# Altium footprint library MicromouseLib.PcbLib: 42 footprints (part 1 of 3)
Each footprint in its own frame and in the unit in brackets; x right, y up, seen from the top. Pads: shape width x height; smd on the part's side, far side on the other; paste and mask are expansions set on the pad; w line width, h text height; cw(c..) or ccw(c..) is an arc to the next point about the centre after c.
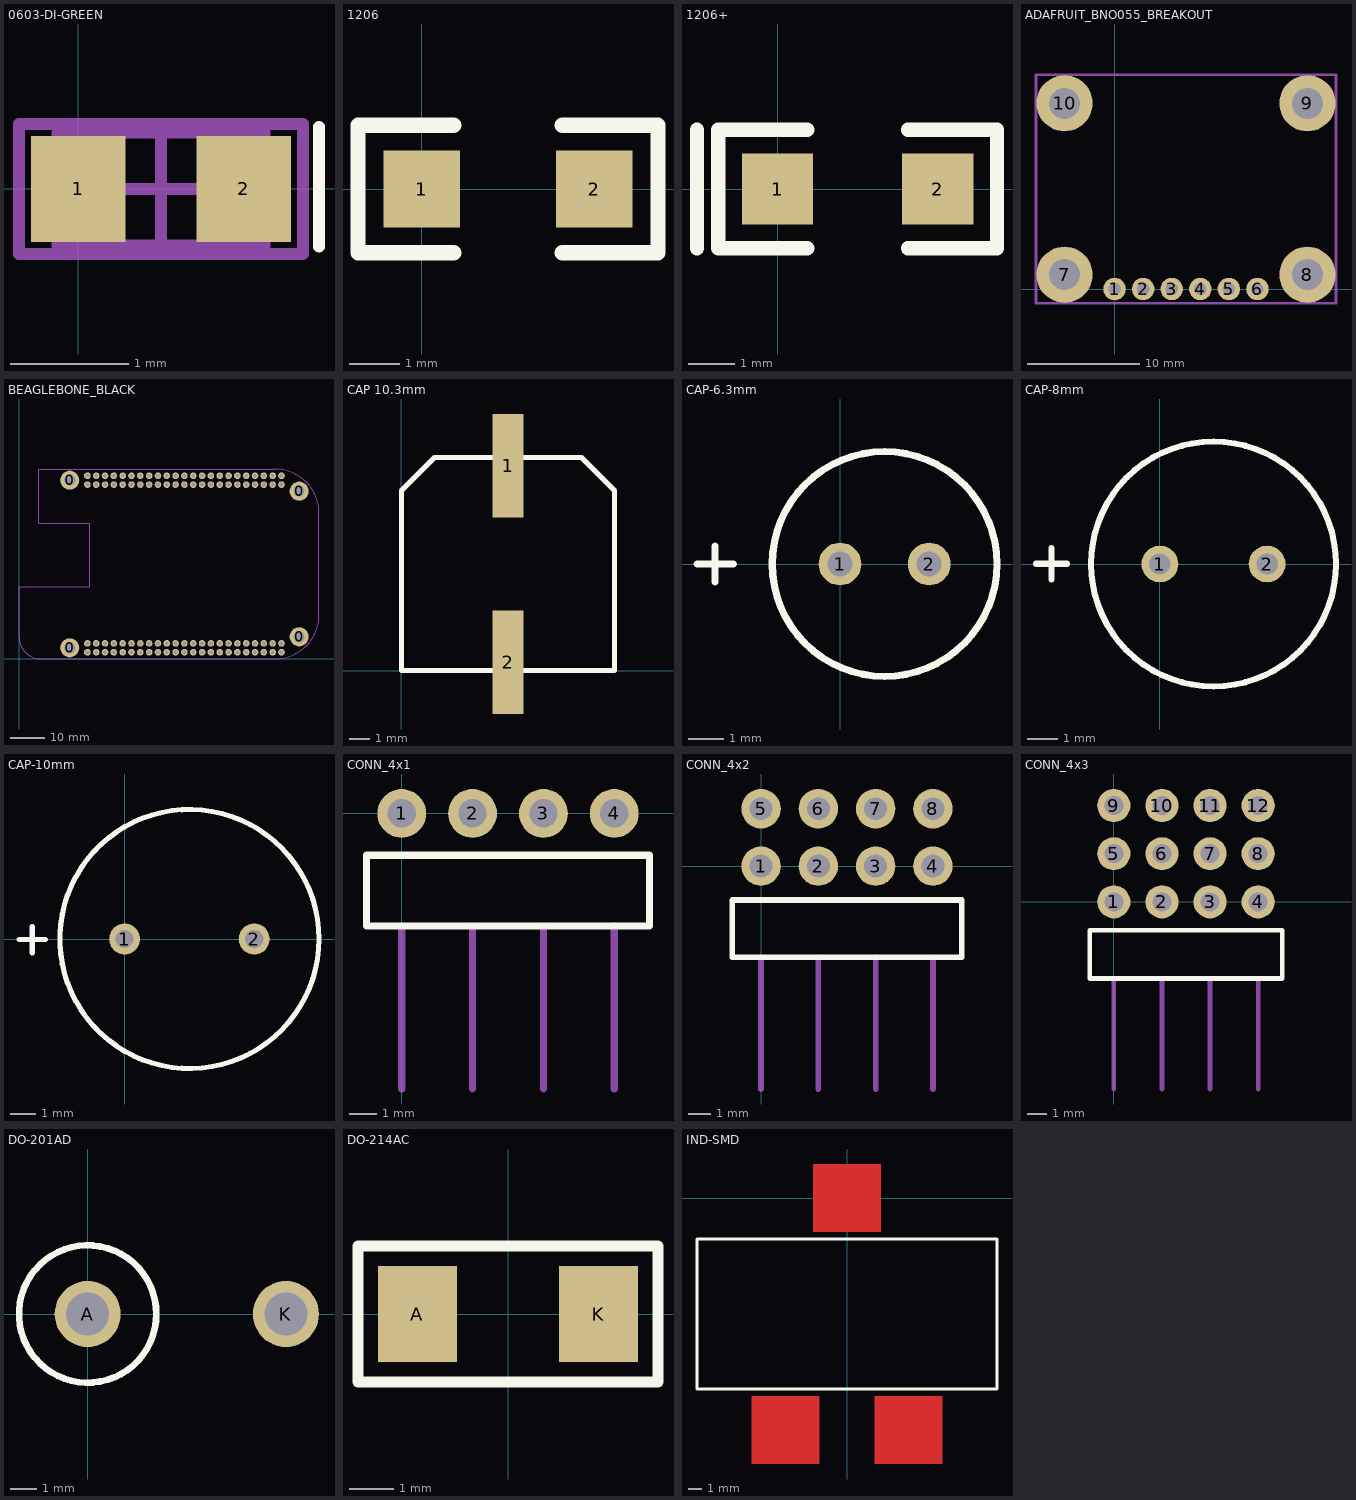
[diagram p0: the footprints below, top view; thin cyan lines are the x and y axes]

## 0603-DI-GREEN [mm] "1.6 x 0.8mm"
pads (2):
  rect 0.8x0.9 smd: 1(0,0) 2(1.4,0)
Top Overlay:
  lines w0.1: 2.035,-0.489 2.035,0.526
Top Outline:
  lines w0.1: -0.175,-0.475 -0.175,0.475 1.575,0.475 1.575,-0.475 -0.175,-0.475
Top Courtyard:
  lines w0.1: 0.225,0 1.175,0 ; 0.7,-0.475 0.7,0.475 ; -0.5,-0.55 -0.5,0.55 1.9,0.55 1.9,-0.55 -0.5,-0.55
3D body: height 0.3, standoff 0, extent -0.1,-0.4 1.5,0.4
3D body: height 0.6, standoff 0.3, extent 0.2,-0.4 1.2,0.4

## 1206 [mil]
pads (2):
  rect 60x60 smd: 1(0,0) 2(135,0)
Top Overlay:
  lines w12: 25,-50 -50,-50 -50,50 25,50 ; 110,-50 185,-50 185,50 110,50
3D body: height 21.65, standoff 0, extent 6.46,-31.5 24.17,31.5
3D body: height 21.65, standoff 0, extent 110.79,-31.5 128.5,31.5
3D body: height 21.65, standoff 0, extent 24.17,-31.5 110.79,31.5

## 1206+ [mil]
pads (2):
  rect 60x60 smd: 1(0,0) 2(135,0)
Top Overlay:
  lines w12: -68,-50 -68,50 ; 25,-50 -50,-50 -50,50 25,50 ; 110,-50 185,-50 185,50 110,50
3D body: height 62.99, standoff 0, extent 4.51,-31.5 130.49,31.5
3D body: height 31.5, standoff 0, extent 0,-30 4.51,30
3D body: height 31.5, standoff 0, extent 130.49,-30 135,30

## ADAFRUIT_BNO055_BREAKOUT [mm]
pads (10):
  round 2 hole 1.1: 1(0,0) 2(2.54,0) 3(5.08,0) 4(7.62,0) 5(10.16,0) 6(12.7,0)
  round 5 hole 2.75: 7(-4.445,1.27) 8(17.145,1.27) 9(17.145,16.51) 10(-4.445,16.51)
Top Outline:
  lines w0.254: -6.985,-1.27 19.685,-1.27 19.685,19.05 -6.985,19.05 -6.985,-1.27

## BEAGLEBONE_BLACK [mm]
pads (96):
  round 5.5 hole 3.175: 0(14.605,3.175) 0(14.605,51.435) 0(80.645,6.35) 0(80.645,48.26)
  round 1.9 hole 1.1: P8_1(19.685,50.165) P8_2(19.685,52.705) P8_3(22.225,50.165) P8_4(22.225,52.705) P8_5(24.765,50.165) P8_6(24.765,52.705) P8_7(27.305,50.165) P8_8(27.305,52.705) P8_9(29.845,50.165) P8_10(29.845,52.705) P8_11(32.385,50.165) P8_12(32.385,52.705) P8_13(34.925,50.165) P8_14(34.925,52.705) P8_15(37.465,50.165) P8_16(37.465,52.705) P8_17(40.005,50.165) P8_18(40.005,52.705) P8_19(42.545,50.165) P8_20(42.545,52.705) P8_21(45.085,50.165) P8_22(45.085,52.705) P8_23(47.625,50.165) P8_24(47.625,52.705) P8_25(50.165,50.165) P8_26(50.165,52.705) P8_27(52.705,50.165) P8_28(52.705,52.705) P8_29(55.245,50.165) P8_30(55.245,52.705) P8_31(57.785,50.165) P8_32(57.785,52.705) P8_33(60.325,50.165) P8_34(60.325,52.705) P8_35(62.865,50.165) P8_36(62.865,52.705) P8_37(65.405,50.165) P8_38(65.405,52.705) P8_39(67.945,50.165) P8_40(67.945,52.705) P8_41(70.485,50.165) P8_42(70.485,52.705) P8_43(73.025,50.165) P8_44(73.025,52.705) P8_45(75.565,50.165) P8_46(75.565,52.705) P9_1(19.685,1.905) P9_2(19.685,4.445) P9_3(22.225,1.905) P9_4(22.225,4.445) P9_5(24.765,1.905) P9_6(24.765,4.445) P9_7(27.305,1.905) P9_8(27.305,4.445) P9_9(29.845,1.905) P9_10(29.845,4.445) P9_11(32.385,1.905) P9_12(32.385,4.445) P9_13(34.925,1.905) P9_14(34.925,4.445) P9_15(37.465,1.905) P9_16(37.465,4.445) P9_17(40.005,1.905) P9_18(40.005,4.445) P9_19(42.545,1.905) P9_20(42.545,4.445) P9_21(45.085,1.905) P9_22(45.085,4.445) P9_23(47.625,1.905) P9_24(47.625,4.445) P9_25(50.165,1.905) P9_26(50.165,4.445) P9_27(52.705,1.905) P9_28(52.705,4.445) P9_29(55.245,1.905) P9_30(55.245,4.445) P9_31(57.785,1.905) P9_32(57.785,4.445) P9_33(60.325,1.905) P9_34(60.325,4.445) P9_35(62.865,1.905) P9_36(62.865,4.445) P9_37(65.405,1.905) P9_38(65.405,4.445) P9_39(67.945,1.905) P9_40(67.945,4.445) P9_41(70.485,1.905) P9_42(70.485,4.445) P9_43(73.025,1.905) P9_44(73.025,4.445) P9_45(75.565,1.905) P9_46(75.565,4.445)
Mechanical 1:
  lines w0.2: 0,6.35 ccw(c6.35,6.35) 6.35,0 73.66,0 ccw(c73.66,12.7) 86.36,12.7 86.36,41.91 ccw(c73.66,41.91) 73.66,54.61 5.715,54.61 5.715,38.973 20.32,38.973 20.32,20.717 0,20.717 0,6.35

## CAP 10.3mm [mm]
height 10.5
pads (2):
  rect 1.5x5 smd: 1(5.15,9.9) 2(5.15,0.4)
Top Overlay:
  lines w0.254: 0,0 0,8.7 1.6,10.3 8.7,10.3 10.3,8.7 10.3,0 0,0
3D body: height 10.5, standoff 0.3, extent 0.15,0.15 10.15,10.15
3D body: height 0.3, standoff 0, extent 0,0 10.3,10.3

## CAP-6.3mm [mm]
pads (2):
  round 1.2 hole 0.7: 1(0,0) 2(2.5,0)
Top Overlay:
  circle w0.2: c1.25,0 r3.15
  lines w0.2: -4.008,0 -2.992,0 ; -3.5,-0.508 -3.5,0.508

## CAP-8mm [mm]
pads (2):
  round 1.2 hole 0.7: 1(0,0) 2(3.5,0)
Top Overlay:
  circle w0.2: c1.75,0 r4
  lines w0.2: -4.048,0.01 -3.032,0.01 ; -3.54,-0.498 -3.54,0.518

## CAP-10mm [mm]
pads (2):
  round 1.2 hole 0.7: 1(0,0) 2(5,0)
Top Overlay:
  circle w0.2: c2.5,0 r5
  lines w0.2: -4.078,-0.02 -3.062,-0.02 ; -3.57,-0.528 -3.57,0.488

## CONN_4x1 [mm]
pads (4):
  round 1.75 hole 1.016: 1(0,0) 2(2.54,0) 3(5.08,0) 4(7.62,0)
Top Overlay:
  lines w0.254: -1.27,-4.04 -1.27,-1.5 8.89,-1.5 8.89,-4.04 -1.27,-4.04
Top Outline:
  lines w0.254: 0,-9.88 0,-4.04 ; 2.54,-9.88 2.54,-4.04 ; 5.08,-9.875 5.08,-4.04 ; 7.62,-9.88 7.62,-4.04

## CONN_4x2 [mm]
pads (8):
  round 1.75 hole 1.016: 1(0,0) 2(2.54,0) 3(5.08,0) 4(7.62,0) 5(0,2.54) 6(2.54,2.54) 7(5.08,2.54) 8(7.62,2.54)
Top Overlay:
  lines w0.254: -1.27,-4.04 -1.27,-1.5 8.89,-1.5 8.89,-4.04 -1.27,-4.04
Top Outline:
  lines w0.254: 0,-9.88 0,-4.04 ; 2.54,-9.88 2.54,-4.04 ; 5.08,-9.875 5.08,-4.04 ; 7.62,-9.88 7.62,-4.04
3D body "DS1022-2x4RF11.stp": height 5, standoff -3, extent -1.27,-10.18 8.89,2.86

## CONN_4x3 [mm]
pads (12):
  round 1.75 hole 1: 1(0,0) 2(2.54,0) 3(5.08,0) 4(7.62,0) 5(0,2.54) 6(2.54,2.54) 7(5.08,2.54) 8(7.62,2.54) 9(0,5.08) 10(2.54,5.08) 11(5.08,5.08) 12(7.62,5.08)
Top Overlay:
  lines w0.254: -1.27,-4.04 8.89,-4.04 8.89,-1.5 -1.27,-1.5 -1.27,-4.04
Top Outline:
  lines w0.254: 0,-9.88 0,-4.04 ; 2.54,-9.88 2.54,-4.04 ; 5.08,-9.875 5.08,-4.04 ; 7.62,-9.88 7.62,-4.04

## DO-201AD [mil]
pads (2):
  round 100 hole 65: A(0,0) K(300,0)
Top Overlay:
  circle w10: c0,0 r103.94

## DO-214AC [mil]
pads (2):
  rect 70x85 smd: A(-80,0) K(80,0)
Top Overlay:
  lines w10: -132.5,-60 -132.5,0 -132.5,60 132.5,60 132.5,-60 -132.5,-60

## HEATSINK-0.26in [mm]
height 9.9
3D body: height 5.83, standoff 0, extent 0,0 6.604,6.604
3D body: height 9.91, standoff 0, extent 0,0 1.04,6.604
3D body: height 9.91, standoff 0, extent 2.782,0 3.822,6.604
3D body: height 9.91, standoff 0, extent 5.564,0 6.604,6.604

## IND-SMD [mm] "Surface-Mount Inductor"
pads (3):
  round 0 all layers, no hole: 1(-4.5,-17) 2(4.5,-17) 3(0,0)
Top Layer:
  rectangle: 2,-19.5 7,-14.5
  rectangle: -7,-19.5 -2,-14.5
  rectangle: -2.5,-2.5 2.5,2.5
Top Overlay:
  lines w0.254: -11,-14 11,-14 11,-3 -11,-3 -11,-14